# EAGLE library part STM32F103C8T6 (library stm32f103c8t6)
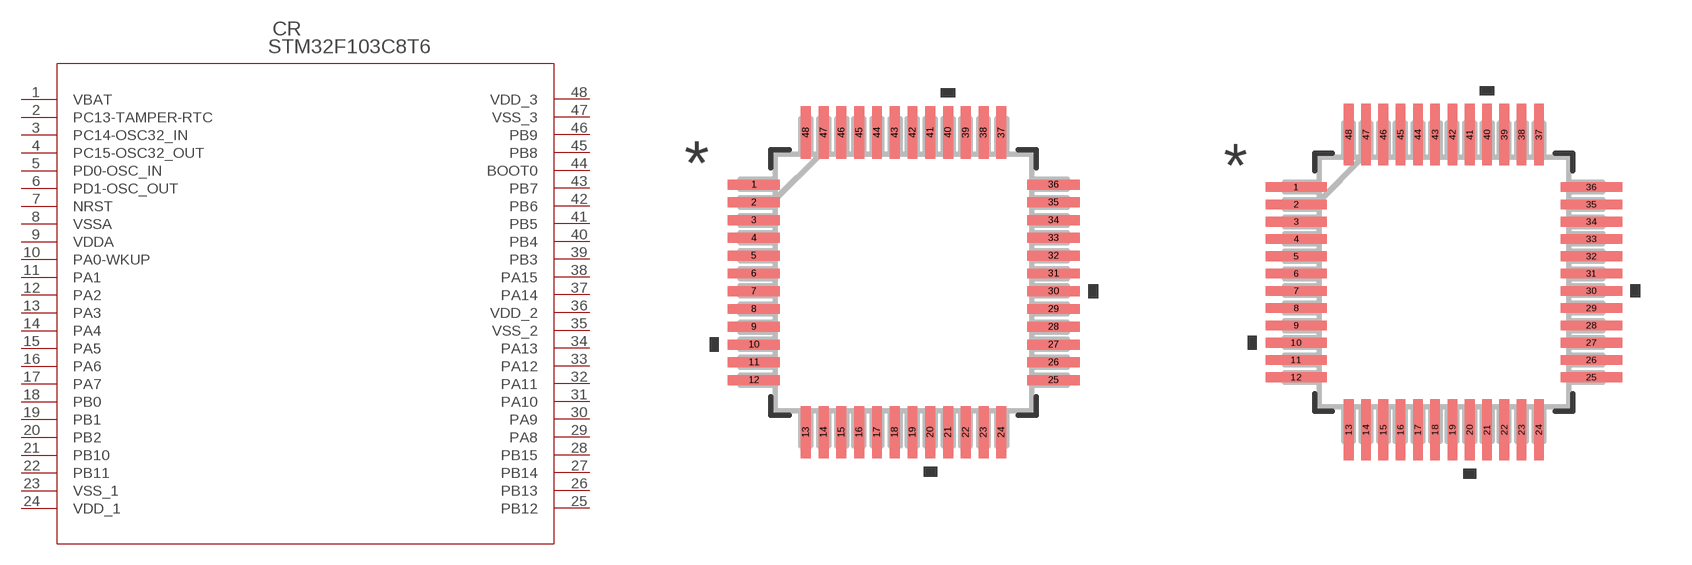
[diagram p0: symbol with the pads of LQFP-48; footprints LQFP-48, LQFP-48-M]

Designator prefix CR

## STM32F103C8T6 (BUILT_BY: EMA_UL_Team; MANUFACTURER_PART_NUMBER: STM32F103C8T6; VENDOR: STMicroelectronics)  [LQFP-48]
1  VBAT  pwr
2  PC13-TAMPER-RTC
3  PC14-OSC32_IN
4  PC15-OSC32_OUT
5  PD0-OSC_IN
6  PD1-OSC_OUT
7  NRST
8  VSSA  pwr
9  VDDA  pwr
10  PA0-WKUP
11  PA1
12  PA2
13  PA3
14  PA4
15  PA5
16  PA6
17  PA7
18  PB0
19  PB1
20  PB2
21  PB10
22  PB11
23  VSS_1  pwr
24  VDD_1  pwr
25  PB12
26  PB13
27  PB14
28  PB15
29  PA8
30  PA9
31  PA10
32  PA11
33  PA12
34  PA13
35  VSS_2  pwr
36  VDD_2  pwr
37  PA14
38  PA15
39  PB3
40  PB4
41  PB5
42  PB6
43  PB7
44  BOOT0  in
45  PB8
46  PB9
47  VSS_3  pwr
48  VDD_3  pwr

## STM32F103C8T6LQFP-48-M (BUILT_BY: EMA_UL_Team; MANUFACTURER_PART_NUMBER: STM32F103C8T6; VENDOR: STMicroelectronics)  [LQFP-48-M]
Pads as for LQFP-48

## STM32F103C8T6LQFP-48-L (BUILT_BY: EMA_UL_Team; MANUFACTURER_PART_NUMBER: STM32F103C8T6; VENDOR: STMicroelectronics)  [LQFP-48-L]
Pads as for LQFP-48

## Footprint LQFP-48 (pad centres in mm)
smd 1.473 x 0.279: 1 -4.216,2.75; 2 -4.216,2.25; 3 -4.216,1.75; 4 -4.216,1.25; 5 -4.216,0.75; 6 -4.216,0.25; 7 -4.216,-0.25; 8 -4.216,-0.75; 9 -4.216,-1.25; 10 -4.216,-1.75; 11 -4.216,-2.25; 12 -4.216,-2.75; 25 4.216,-2.75; 26 4.216,-2.25; 27 4.216,-1.75; 28 4.216,-1.25; 29 4.216,-0.75; 30 4.216,-0.25; 31 4.216,0.25; 32 4.216,0.75; 33 4.216,1.25; 34 4.216,1.75; 35 4.216,2.25; 36 4.216,2.75
smd 0.279 x 1.473: 13 -2.75,-4.216; 14 -2.25,-4.216; 15 -1.75,-4.216; 16 -1.25,-4.216; 17 -0.75,-4.216; 18 -0.25,-4.216; 19 0.25,-4.216; 20 0.75,-4.216; 21 1.25,-4.216; 22 1.75,-4.216; 23 2.25,-4.216; 24 2.75,-4.216; 37 2.75,4.216; 38 2.25,4.216; 39 1.75,4.216; 40 1.25,4.216; 41 0.75,4.216; 42 0.25,4.216; 43 -0.25,4.216; 44 -0.75,4.216; 45 -1.25,4.216; 46 -1.75,4.216; 47 -2.25,4.216; 48 -2.75,4.216

## Footprint LQFP-48-M (pad centres in mm)
smd 1.778 x 0.279: 1 -4.267,2.75; 2 -4.267,2.25; 3 -4.267,1.75; 4 -4.267,1.25; 5 -4.267,0.75; 6 -4.267,0.25; 7 -4.267,-0.25; 8 -4.267,-0.75; 9 -4.267,-1.25; 10 -4.267,-1.75; 11 -4.267,-2.25; 12 -4.267,-2.75; 25 4.267,-2.75; 26 4.267,-2.25; 27 4.267,-1.75; 28 4.267,-1.25; 29 4.267,-0.75; 30 4.267,-0.25; 31 4.267,0.25; 32 4.267,0.75; 33 4.267,1.25; 34 4.267,1.75; 35 4.267,2.25; 36 4.267,2.75
smd 0.279 x 1.778: 13 -2.75,-4.267; 14 -2.25,-4.267; 15 -1.75,-4.267; 16 -1.25,-4.267; 17 -0.75,-4.267; 18 -0.25,-4.267; 19 0.25,-4.267; 20 0.75,-4.267; 21 1.25,-4.267; 22 1.75,-4.267; 23 2.25,-4.267; 24 2.75,-4.267; 37 2.75,4.267; 38 2.25,4.267; 39 1.75,4.267; 40 1.25,4.267; 41 0.75,4.267; 42 0.25,4.267; 43 -0.25,4.267; 44 -0.75,4.267; 45 -1.25,4.267; 46 -1.75,4.267; 47 -2.25,4.267; 48 -2.75,4.267

## Footprint LQFP-48-L (pad centres in mm)
smd 1.168 x 0.178: 1 -4.166,2.75; 2 -4.166,2.25; 3 -4.166,1.75; 4 -4.166,1.25; 5 -4.166,0.75; 6 -4.166,0.25; 7 -4.166,-0.25; 8 -4.166,-0.75; 9 -4.166,-1.25; 10 -4.166,-1.75; 11 -4.166,-2.25; 12 -4.166,-2.75; 25 4.166,-2.75; 26 4.166,-2.25; 27 4.166,-1.75; 28 4.166,-1.25; 29 4.166,-0.75; 30 4.166,-0.25; 31 4.166,0.25; 32 4.166,0.75; 33 4.166,1.25; 34 4.166,1.75; 35 4.166,2.25; 36 4.166,2.75
smd 0.178 x 1.168: 13 -2.75,-4.166; 14 -2.25,-4.166; 15 -1.75,-4.166; 16 -1.25,-4.166; 17 -0.75,-4.166; 18 -0.25,-4.166; 19 0.25,-4.166; 20 0.75,-4.166; 21 1.25,-4.166; 22 1.75,-4.166; 23 2.25,-4.166; 24 2.75,-4.166; 37 2.75,4.166; 38 2.25,4.166; 39 1.75,4.166; 40 1.25,4.166; 41 0.75,4.166; 42 0.25,4.166; 43 -0.25,4.166; 44 -0.75,4.166; 45 -1.25,4.166; 46 -1.75,4.166; 47 -2.25,4.166; 48 -2.75,4.166